# Altium schematic symbol library TPS7A2030PDBVR.SchLib: 1 symbol
Pins are listed as number, name and electrical type; pins without a type are passive.

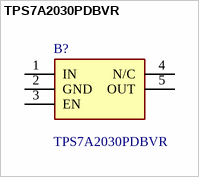
[diagram p0: symbol TPS7A2030PDBVR]

## TPS7A2030PDBVR
designator B?
LDO Voltage Regulators 300-mA, ultra-low-noise, low-IQ, low-dropout (LDO) linear regulator with high PSRR; Manufacturer_Name: Texas Instruments; Geometry.Height: 1.45mm; Manufacturer_Part_Number: TPS7A2030PDBVR; Mouser Part Number: 595-TPS7A2030PDBVR; Mouser Price/Stock: https://www.mouser.co.uk/ProductDetail/Texas-Instruments/TPS7A2030PDBVR?qs=hd1VzrDQEGgZMtQinkbhYw%3D%3D; Arrow Part Number: TPS7A2030PDBVR; Arrow Price/Stock: https://www.arrow.com/en/products/tps7a2030pdbvr/texas-instruments?utm_currency=USD&region=nac; Datasheet Link: https://www.arrow.com/en/products/tps7a2030pdbvr/texas-instruments
footprint SOT95P280X145-5N
pins: 1 IN, 2 GND, 3 EN, 4 N/C, 5 OUT